# EAGLE library part 2450BM14E0003 (library Passives)
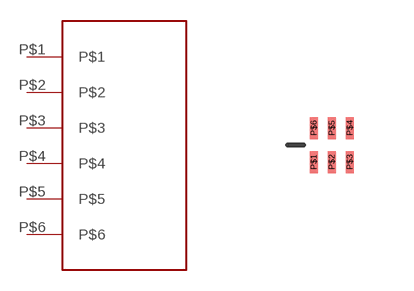
[diagram p0: symbol with the pads of 2450BM14E0003; footprint 2450BM14E0003]

Designator prefix -

## 2450BM14E0003  [2450BM14E0003]
P$1  P$1
P$2  P$2
P$3  P$3
P$4  P$4
P$5  P$5
P$6  P$6

## Footprint 2450BM14E0003 (pad centres in mm)
smd 0.2 x 0.55: P$1 -0.45,-0.425; P$2 0,-0.425; P$3 0.45,-0.425; P$4 0.45,0.425; P$5 0,0.425; P$6 -0.45,0.425